# Altium footprint library КОТ-С.PcbLib: 65 footprints (part 5 of 5)
Each footprint in its own frame and in the unit in brackets; x right, y up, seen from the top. Pads: shape width x height; smd on the part's side, far side on the other; paste and mask are expansions set on the pad; w line width, h text height; cw(c..) or ccw(c..) is an arc to the next point about the centre after c.
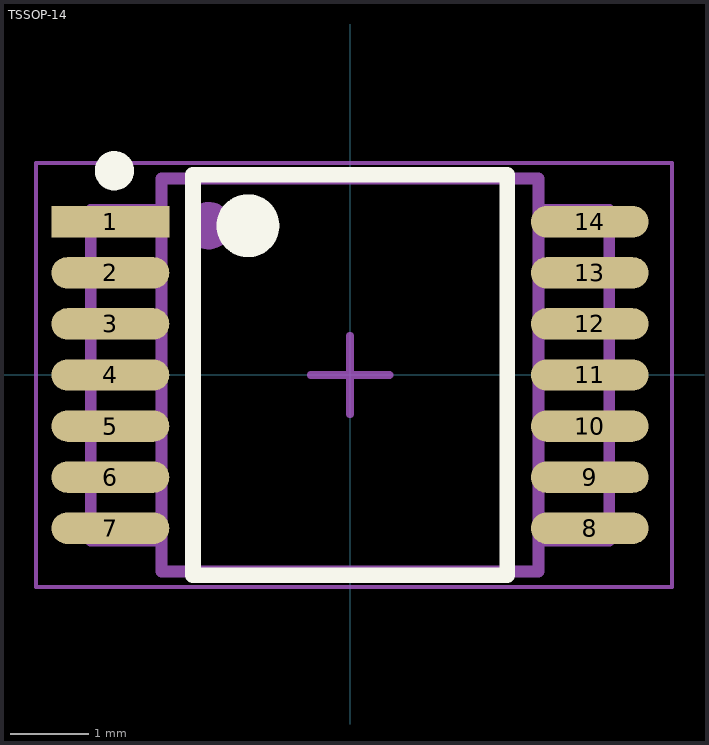
[diagram p4: the footprint, top view; thin cyan lines are the x and y axes]

## TSSOP-14 [mm]
pads (14):
  rect 1.5x0.4 smd paste-0.025 mask+0.075: 1(-3.05,1.95)
  oval 1.5x0.4 smd paste-0.025 mask+0.075: 2(-3.05,1.3) 3(-3.05,0.65) 4(-3.05,0) 5(-3.05,-0.65) 6(-3.05,-1.3) 7(-3.05,-1.95) 8(3.05,-1.95) 9(3.05,-1.3) 10(3.05,-0.65) 11(3.05,0) 12(3.05,0.65) 13(3.05,1.3) 14(3.05,1.95)
Top Overlay:
  circle w0.4: c-1.3,1.9 r0.2
  circle w0.25: c-3,2.6 r0.125
  lines w0.2: -2,-2.55 -2,2.55 2,2.55 2,-2.55 -2,-2.55
Mechanical 5:
  circle w0.4: c-1.8,1.9 r0.1
  lines w0.15: -2.4,-2.11 -3.3,-2.11 -3.3,2.1 -2.4,2.1 ; 2.4,-2.11 3.3,-2.11 3.3,2.1 2.4,2.1 ; -2.4,-2.5 2.4,-2.5 2.4,2.5 -2.4,2.5 -2.4,-2.5
  text ".Designator" at -1.55,-0.375 h1.6
Mechanical 15:
  lines w0.05: -4,-2.7 4.1,-2.7 4.1,2.7 -4,2.7 -4,-2.7
  lines w0.1: -0.5,0 0.5,0 ; 0,-0.5 0,0.5
3D body "TSSOP-14.stp": height 1.12, standoff 0.02, extent -3.3,-2.55 3.3,2.55